# EAGLE library part 632121300001 (library Input-Output_Connectors_rev15d)
USB3.1 TYPE A RECEPTACLE - HORIZONTAL THT - POWER DELIVERY =>ConUSB31 632121300001 Characteristics INSULATOR:PA9T FLAMMABILITY RATING: UL94-V0 COLOR: BLUE CONTACT MATERIAL: COPPER ALLOY CONTACT PLATING: GOLD OVER Pd-Ni CONTACT AREA: 30μ’’ Pd-Ni+2μ’’ Gold SOLDER TAIL AREA: 100 to 200 μ’’ Tin QUALITY CLASS: 5 000 MATING CYCLES OPERATING TEMPERATURE:-20°C UP TO +85°C COMPLIANCE: LEAD FREE AND ROHS ELECTRICAL CURRENT RATING: 5 A MAX WORKING VOLTAGE: 20 VDC MAX DIELECTRIC WITHSTANDING VOLTAGE: 100 VAC/MIN INSULATION RESISTANCE: > 100 MΩ CONTACT RESISTANCE: - PIN 1 & PIN 4: 30 mΩ MAX - OTHER PINS: 50 mΩ MAX <http://katalog.we-online.de/media/images/v2/Family_WR-COM_632121300001_4C.jpg> Details see: http://katalog.we-online.de/en/em/COM_3_1_THT_TYPE_A_RECEPTACLE_HORIZONTAL/632121300001? 2015 (C) Wurth Elektronik
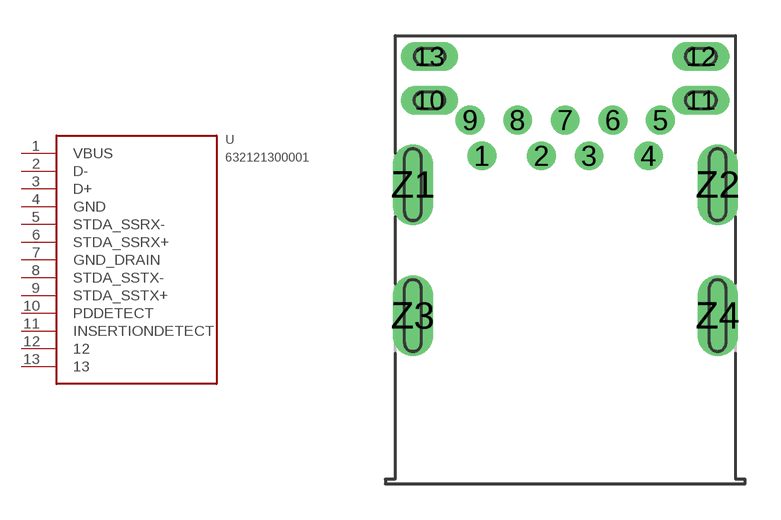
[diagram p184: symbol with the pads of 632121300001; footprint 632121300001]

Designator prefix -

## 632121300001  [632121300001]
1  VBUS
2  D-
3  D+
4  GND
5  STDA_SSRX-
6  STDA_SSRX+
7  GND_DRAIN
8  STDA_SSTX-
9  STDA_SSTX+
10  PDDETECT
11  INSERTIONDETECT
12  12
13  13

## Footprint 632121300001 (pad centres in mm)
drill 0.7 pad 1.1: 1 -3.5,-1.5; 2 -1,-1.5; 3 1,-1.5; 4 3.5,-1.5; 5 4,0; 6 2,0; 7 0,0; 8 -2,0; 9 -4,0
drill 0.7 pad 1.1 long: 10 -5.7,0.84; 11 5.7,0.84; 12 5.7,2.68; 13 -5.7,2.68
drill 0.7 pad 1.7 long: Z1 -6.4,-2.71; Z2 6.4,-2.71; Z3 -6.4,-8.21; Z4 6.4,-8.21